# Altium schematic symbol library pedals-resistors.SCHLIB: 12 symbols
Pins are listed as number, name and electrical type; pins without a type are passive.

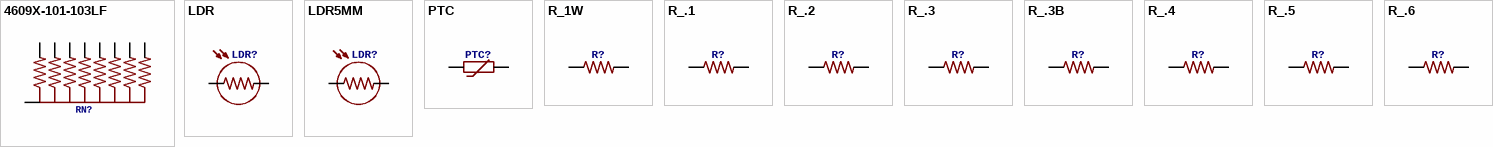
[diagram p0: symbols 4609X-101-103LF to R_.6]

## 4609X-101-103LF
designator RN?
footprint RN9
pins: 1, 2, 3, 4, 5, 6, 7, 8, C

## LDR
designator LDR?
footprint PHOTOCELL2
pins: P$1 1, P$2 2

## LDR5MM
designator LDR?
footprint PHOTOCELL
pins: 1, 2

## PTC
designator PTC?
footprint PTC
pins: P$1 1, P$2 2

## R_1W
designator R?
footprint 1W
pins: 1, 2

## R_.1
designator R?
footprint R0207/1V
pins: 1, 2

## R_.2
designator R?
footprint R0207/2V
pins: 1, 2

## R_.3
designator R?
footprint R0204/3
pins: 1, 2

## R_.3B
designator R?
footprint R0207/3
pins: 1, 2

## R_.4
designator R?
footprint R0207/4
pins: 1, 2

## R_.5
designator R?
footprint R0207/5
pins: 1, 2

## R_.6
designator R?
footprint R0207/6
pins: 1, 2